# EAGLE library part DEBUG_CONNECTOR (library Nordic_misc)
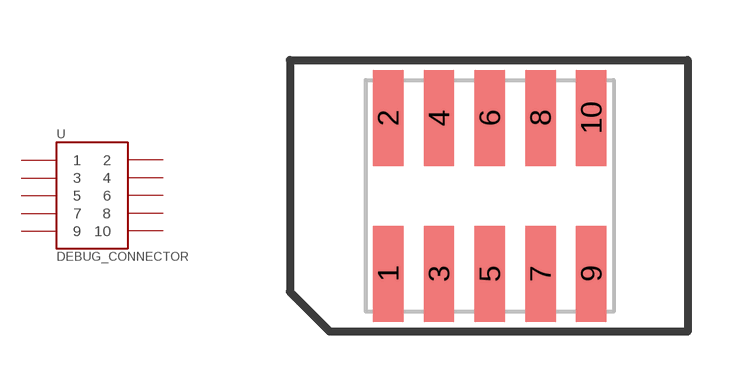
[diagram p0: symbol with the pads of HDRV127P5X2-10_N; footprint HDRV127P5X2-10_N]

Designator prefix -

## DEBUG_CONNECTOR  [HDRV127P5X2-10_N]
1  1
2  2
3  3
4  4
5  5
6  6
7  7
8  8
9  9
10  10

## Footprint HDRV127P5X2-10_N (pad centres in mm)
smd 0.76 x 2.4: 1 -2.54,-1.95; 2 -2.54,1.95; 3 -1.27,-1.95; 4 -1.27,1.95; 5 0,-1.95; 6 0,1.95; 7 1.27,-1.95; 8 1.27,1.95; 9 2.54,-1.95; 10 2.54,1.95